# EAGLE library part ARM_JTAG (library connector)
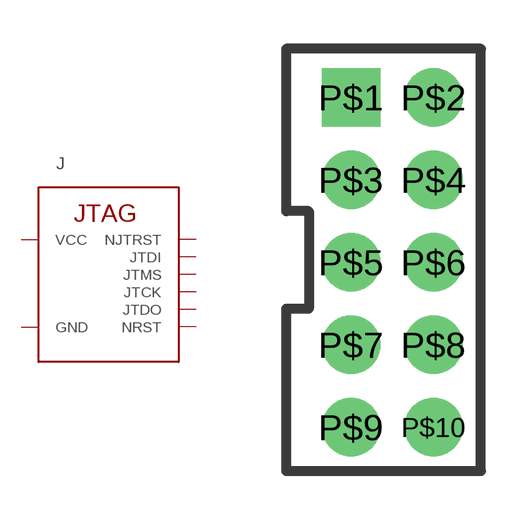
[diagram p0: symbol with the pads of JTAG_10PIN; footprint JTAG_10PIN]

Designator prefix J

## ARM_JTAG  [JTAG_10PIN]
P$1  VCC  pwr
P$2  JTMS
P$3  GND  pwr
P$4  JTCK
P$5  GND  pwr
P$6  JTDO
P$7  NJTRST
P$8  JTDI
P$9  GND  pwr
P$10  NRST

## Footprint JTAG_10PIN (pad centres in mm)
drill 1.2 square: P$1 0,0
drill 1.2: P$2 2.54,0; P$3 0,-2.54; P$4 2.54,-2.54; P$5 0,-5.08; P$6 2.54,-5.08; P$7 0,-7.62; P$8 2.54,-7.62; P$9 0,-10.16; P$10 2.54,-10.16